# Altium footprint library LYDZ.PcbLib: 231 footprints (part 9 of 15)
Each footprint in its own frame and in the unit in brackets; x right, y up, seen from the top. Pads: shape width x height; smd on the part's side, far side on the other; paste and mask are expansions set on the pad; w line width, h text height; cw(c..) or ccw(c..) is an arc to the next point about the centre after c.
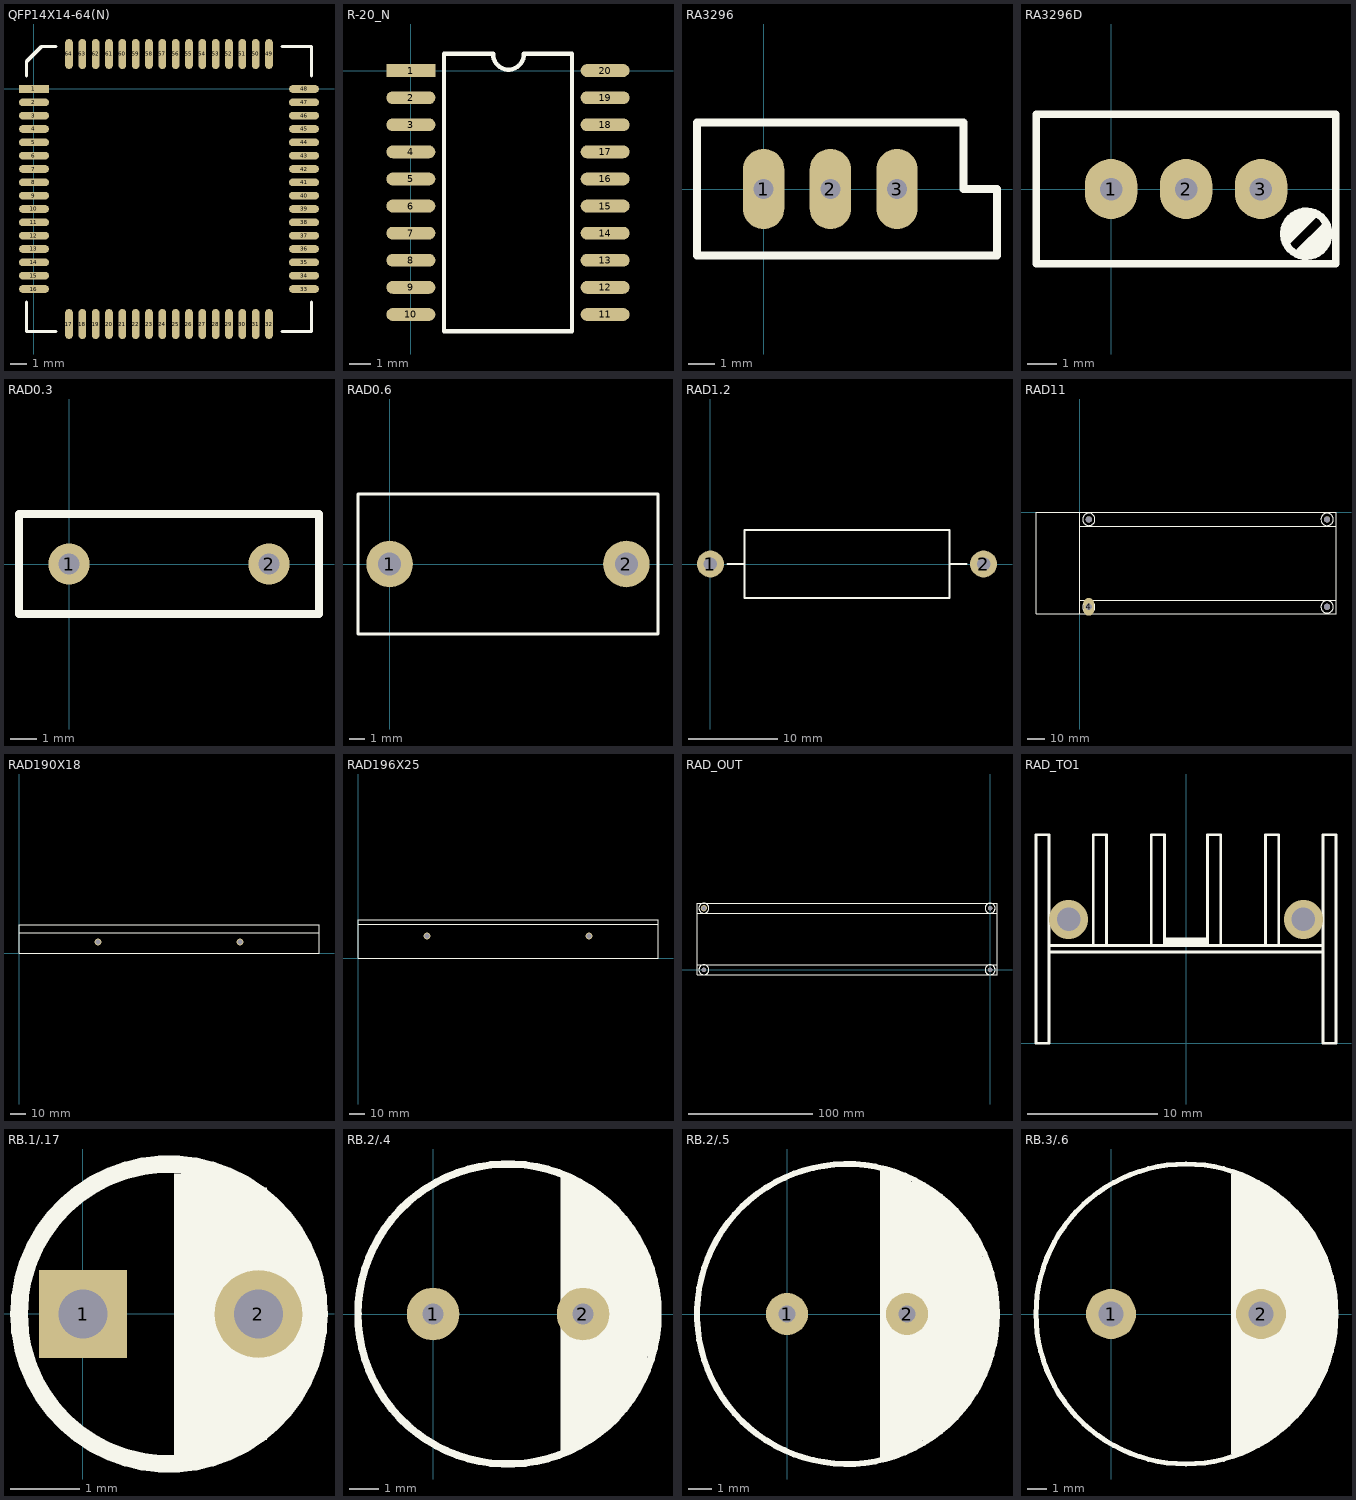
[diagram p8: the footprints below, top view; thin cyan lines are the x and y axes]

## QFP14X14-64(N) [mm]
pads (64):
  rect 1.8x0.457 smd: 1(0,0)
  oval 1.8x0.457 smd: 2(0,-0.8) 3(0,-1.6) 4(0,-2.4) 5(0,-3.2) 6(0,-4) 7(0,-4.8) 8(0,-5.6) 9(0,-6.4) 10(0,-7.2) 11(0,-8) 12(0,-8.8) 13(0,-9.6) 14(0,-10.4) 15(0,-11.2) 16(0,-12) 33(16.2,-12) 34(16.2,-11.2) 35(16.2,-10.4) 36(16.2,-9.6) 37(16.2,-8.8) 38(16.2,-8) 39(16.2,-7.2) 40(16.2,-6.4) 41(16.2,-5.6) 42(16.2,-4.8) 43(16.2,-4) 44(16.2,-3.2) 45(16.2,-2.4) 46(16.2,-1.6) 47(16.2,-0.8) 48(16.2,0)
  oval 0.457x1.8 smd: 17(2.1,-14.1) 18(2.9,-14.1) 19(3.7,-14.1) 20(4.5,-14.1) 21(5.3,-14.1) 22(6.1,-14.1) 23(6.9,-14.1) 24(7.7,-14.1) 25(8.5,-14.1) 26(9.3,-14.1) 27(10.1,-14.1) 28(10.9,-14.1) 29(11.7,-14.1) 30(12.5,-14.1) 31(13.3,-14.1) 32(14.1,-14.1) 49(14.1,2.1) 50(13.3,2.1) 51(12.5,2.1) 52(11.7,2.1) 53(10.9,2.1) 54(10.1,2.1) 55(9.3,2.1) 56(8.5,2.1) 57(7.7,2.1) 58(6.9,2.1) 59(6.1,2.1) 60(5.3,2.1) 61(4.5,2.1) 62(3.7,2.1) 63(2.9,2.1) 64(2.1,2.1)
Top Overlay:
  lines w0.2: -0.45,-12.8 -0.45,-14.55 1.3,-14.55 ; -0.45,0.8 -0.45,1.65 0.45,2.55 1.3,2.55 ; 14.9,-14.55 16.65,-14.55 16.65,-12.8 ; 14.9,2.55 16.65,2.55 16.65,0.8

## R-20_N [mm]
pads (20):
  rect 2.3x0.6 smd: 1(0,0)
  oval 2.3x0.6 smd: 2(0,-1.27) 3(0,-2.54) 4(0,-3.81) 5(0,-5.08) 6(0,-6.35) 7(0,-7.62) 8(0,-8.89) 9(0,-10.16) 10(0,-11.43) 11(9.1,-11.43) 12(9.1,-10.16) 13(9.1,-8.89) 14(9.1,-7.62) 15(9.1,-6.35) 16(9.1,-5.08) 17(9.1,-3.81) 18(9.1,-2.54) 19(9.1,-1.27) 20(9.1,0)
Top Overlay:
  lines w0.2: 1.55,0.785 1.55,-12.215 7.55,-12.215 7.55,0.785
  lines w0.203: 1.55,0.785 3.81,0.785 ; 3.854,0.784 ccw(c4.572,0.762) 5.29,0.785 7.55,0.785

## RA3296 [mil]
pads (3):
  oval 62x120 hole 30: 1(0,0) 2(100,0) 3(200,0)
Top Overlay:
  lines w12: -100,-100 -100,100 300,100 300,0 350,0 350,-100 -100,-100

## RA3296D [mil]
pads (3):
  oval 70x80 hole 30: 1(0,0) 2(100,0) 3(200,0)
Top Overlay:
  circle w10: c260.3,-59.7 r30
  lines w10: 234.57,-70.43 270,-35 ; 250,-35 235,-50 235,-60 261.45,-33.55 ; 252.37,-82.63 285,-50 ; 258.48,-81.52 284.93,-55.07 ; 263.85,-86.15 290.3,-59.7 ; -100,-100 100,-100 300,-100 300,100 -100,100 -100,-100

## RAD0.3 [mil]
pads (2):
  round 62 hole 32: 1(0,0) 2(300,0)
Top Overlay:
  lines w12: -75,-75 -75,75 375,75 375,-75 -75,-75

## RAD0.6 [mm]
pads (2):
  round 3 hole 1.5: 1(0,0) 2(15.24,0)
Top Overlay:
  lines w0.203: -2.032,-4.5 17.272,-4.5 17.272,4.5 -2.032,4.5 -2.032,-4.5

## RAD1.2 [mm]
pads (2):
  round 3 hole 1.5: 1(0,0) 2(30.48,0)
Top Overlay:
  lines w0.203: 1.905,0 3.81,0 ; 26.67,0 28.575,0 ; 3.81,-3.81 3.81,3.81 26.67,3.81 26.67,-3.81 3.81,-3.81

## RAD11 [mm]
pads (4):
  round 3.5 hole 3.5: 1(5,-4) 2(140,-4) 3(140,-53.5)
  oval 6x10 hole 3.5: 4(5,-53.5)
Top Overlay:
  circle w0.254: c140,-53.5 r3.5
  circle w0.254: c140,-4 r3.5
  circle w0.254: c5,-53.5 r3.5
  circle w0.254: c5,-4 r3.5
  lines w0.127: -0.381,-57.531 145.034,-57.531 145.034,0 -0.381,0 ; 0,-49.657 145.034,-49.657 ; 0,-7.874 145.034,-7.874 ; -24.892,-57.531 -24.892,0 0,0 0,-57.531 -24.892,-57.531

## RAD190X18 [mil]
via 1968.5,275.59 diameter 177.17 hole 125.98
via 5511.81,275.59 diameter 177.17 hole 125.98
Top Overlay:
  lines w10: -0.32,515 7480,515 ; 0,708.66 0,0 7480,0 7480,708.66 ; 0,710 7480,710

## RAD196X25 [mil]
via 1771.65,566.34 diameter 177.17 hole 125.98
via 5944.88,566.34 diameter 177.17 hole 125.98
Top Overlay:
  lines w10: 0,876 7716.54,876 ; 0,0 7716.54,0 7716.54,984.25 0,984.25 0,0

## RAD_OUT [mm]
pads (4):
  round 5 hole 3.5: 1(-230,49.5)
  round 3.5 hole 3.5: 3(0,49.5) 4(-230,0) 6(0,0)
Top Overlay:
  circle w0.254: c-230,49.5 r4
  circle w0.254: c0,49.5 r4
  circle w0.254: c0,0 r4
  circle w0.254: c-230,0 r4
  lines w0.254: -235.5,4 5.5,4 ; -235.5,45.5 5.5,45.5 ; -235.5,-4 5.5,-4 5.5,53.5 -235.5,53.5 -235.5,-4

## RAD_TO1 [mil]
via 354.33,374.02 diameter 118.11 hole 70.87
via -354.33,374.02 diameter 118.11 hole 70.87
Top Overlay:
  lines w8: -413.39,275.59 413.39,275.59 ; -413.39,295.28 413.39,295.28 ; -280,295.28 -280,629.92 -240,629.92 -240,295.28 ; -105,295.28 -105,629.92 -65,629.92 -65,295.28 ; -65,299.96 65,299.96 ; -65,304.96 65,304.96 ; -65,309.96 65,309.96 ; -65,314.96 65,314.96 ; 65,295.28 65,629.92 105,629.92 105,295.28 ; 240,295.28 240,629.92 280,629.92 280,295.28 ; -452.76,0 -452.76,629.92 -413.39,629.92 -413.39,0 -452.76,0 ; 413.39,0 413.39,629.92 452.76,629.92 452.76,0 413.39,0

## RB.1/.17 [mil]
pads (2):
  rect 50x50 hole 28: 1(0.07,-0.09)
  round 50 hole 28: 2(100.06,-0.09)
Top Overlay:
  circle w10: c49.06,-0.09 r85.47
  rectangle: 52,-82 70,80
  rectangle: 70,-78 88,80
  rectangle: 82,-72 105,72
  rectangle: 101,-62 113,59
  rectangle: 110,-52 123,50
  rectangle: 119,-29 130,38
  rectangle: 119,-37 127,-14

## RB.2/.4 [mil]
pads (2):
  round 70 hole 28: 1(0,0) 2(200,0)
Top Overlay:
  circle w10: c100,0 r200
  rectangle: 286,-57 295,58
  rectangle: 276,-85 286,85
  rectangle: 265,-104 276,104
  rectangle: 252,-122 265,122
  rectangle: 216,-153 230,-142
  rectangle: 239,-137 252,137
  rectangle: 217,147 228,154
  rectangle: 196,159 214,166
  rectangle: 204,-166 216,-158
  rectangle: 192,-173 204,-158
  rectangle: 170,-182 192,-158
  rectangle: 214,-149 239,149
  rectangle: 170,-163 224,162
  rectangle: 188,162 207,173
  rectangle: 170,159 192,182

## RB.2/.5 [mil]
pads (2):
  round 70 hole 28: 1(0,0) 2(200,0)
Top Overlay:
  circle w10: c100,0 r250
  rectangle: 155,-240 175,240
  rectangle: 310,20 340,70
  rectangle: 305,35 335,85
  rectangle: 300,45 330,95
  rectangle: 300,55 325,110
  rectangle: 280,40 320,120
  rectangle: 270,55 315,135
  rectangle: 260,70 305,150
  rectangle: 230,48 295,163
  rectangle: 200,160 235,215
  rectangle: 240,-150 305,-127
  rectangle: 245,-140 310,-107
  rectangle: 250,-127 315,-12
  rectangle: 260,-117 325,-2
  rectangle: 230,-162 295,-47
  rectangle: 265,-107 330,8
  rectangle: 270,-92 335,23
  rectangle: 275,-77 340,38
  rectangle: 280,-57 345,58
  rectangle: 275,-170 285,175
  rectangle: 265,-180 280,180
  rectangle: 252,-185 270,185
  rectangle: 216,-210 240,-142
  rectangle: 239,-195 260,195
  rectangle: 217,147 228,154
  rectangle: 196,159 225,220
  rectangle: 204,-225 215,-158
  rectangle: 192,-230 205,-158
  rectangle: 170,-235 192,-158
  rectangle: 214,-205 250,205
  rectangle: 170,-220 225,215
  rectangle: 188,162 207,230
  rectangle: 170,159 192,235

## RB.3/.6 [mil]
pads (2):
  round 100 hole 50: 1(0,0) 2(300,0)
Top Overlay:
  circle w10: c150,0 r300
  region: 260,280 240,280 240,-280 260,-280
  region: 299.96,-220 259.96,-220 259.96,-260 299.96,-260
  region: 268.96,-255 259.96,-255 259.96,-280 268.96,-280
  region: 289.96,-255 259.96,-255 259.96,-270 289.96,-270
  region: 347.96,-193 255.96,-193 255.96,-228 347.96,-228
  region: 315.96,-209 278.96,-209 278.96,-256 315.96,-256
  region: 326.96,-206 301.96,-206 301.96,-246 326.96,-246
  region: 337.96,-209 315.96,-209 315.96,-238 337.96,-238
  region: 357.96,-156 330.96,-156 330.96,-222 357.96,-222
  region: 369.96,-129 348.96,-129 348.96,-211 369.96,-211
  region: 378.96,-120 369.96,-120 369.96,-200 378.96,-200
  region: 380.96,-107 369.96,-107 369.96,-200 380.96,-200
  region: 387.96,-91 374.96,-91 374.96,-187 387.96,-187
  region: 396.96,-82 385.96,-82 385.96,-177 396.96,-177
  region: 403.96,-68 396.96,-68 396.96,-165 403.96,-165
  region: 415.96,-54 405.96,-54 405.96,-143 415.96,-143
  region: 408.96,-48 395.96,-48 395.96,-154 408.96,-154
  region: 423.96,-37 405.96,-37 405.96,-130 423.96,-130
  region: 429.96,-19 417.96,-19 417.96,-111 429.96,-111
  region: 433.96,0 428.96,0 428.96,-96 433.96,-96
  region: 442.96,13 431.96,13 431.96,-82 442.96,-82
  region: 446.96,44 432.96,44 432.96,-38 446.96,-38
  region: 431.96,113 406.96,113 406.96,22 431.96,22
  region: 440.96,90 396.96,90 396.96,34 440.96,34
  region: 442.96,72 373.96,72 373.96,13 442.96,13
  region: 414.96,148 390.96,148 390.96,82 414.96,82
  region: 419.96,137 371.96,137 371.96,97 419.96,97
  region: 423.96,121 415.96,121 415.96,108 423.96,108
  region: 397.96,170 371.96,170 371.96,128 397.96,128
  region: 407.96,157 352.96,157 352.96,134 407.96,134
  region: 390.96,181 356.96,181 356.96,148 390.96,148
  region: 400.96,162 392.96,162 392.96,152 400.96,152
  region: 381.96,197 328.96,197 328.96,149 381.96,149
  region: 384.96,185 375.96,185 375.96,173 384.96,173
  region: 347.96,224 300.96,224 300.96,190 347.96,190
  region: 356.96,221 337.96,221 337.96,190 356.96,190
  region: 367.96,212 345.96,212 345.96,188 367.96,188
  region: 375.96,201 359.96,201 359.96,185 375.96,185
  region: 345.96,232 284.96,232 284.96,212 345.96,212
  region: 337.96,240 275.96,240 275.96,221 337.96,221
  region: 322.96,246 257.96,246 257.96,232 322.96,232
  region: 312.96,255 256.96,255 256.96,241 312.96,241
  region: 299.96,265 250.96,265 250.96,249 299.96,249
  region: 283.96,274 251.96,274 251.96,259 283.96,259
  region: 434.96,94 251.96,94 251.96,-56 434.96,-56
  region: 390.96,167 256.96,167 256.96,82 390.96,82
  region: 342.96,232 257.96,232 257.96,149 342.96,149
  region: 399.96,-56 251.96,-56 251.96,-125 399.96,-125
  region: 374.96,-110 257.96,-110 257.96,-187 374.96,-187
  region: 337.96,-169 255.96,-169 255.96,-209 337.96,-209